# Altium footprint library ebf EP4CE10 Pro_20200309_PCB库_AD格式.PcbLib: 62 footprints (part 3 of 4)
Each footprint in its own frame and in the unit in brackets; x right, y up, seen from the top. Pads: shape width x height; smd on the part's side, far side on the other; paste and mask are expansions set on the pad; w line width, h text height; cw(c..) or ccw(c..) is an arc to the next point about the centre after c.
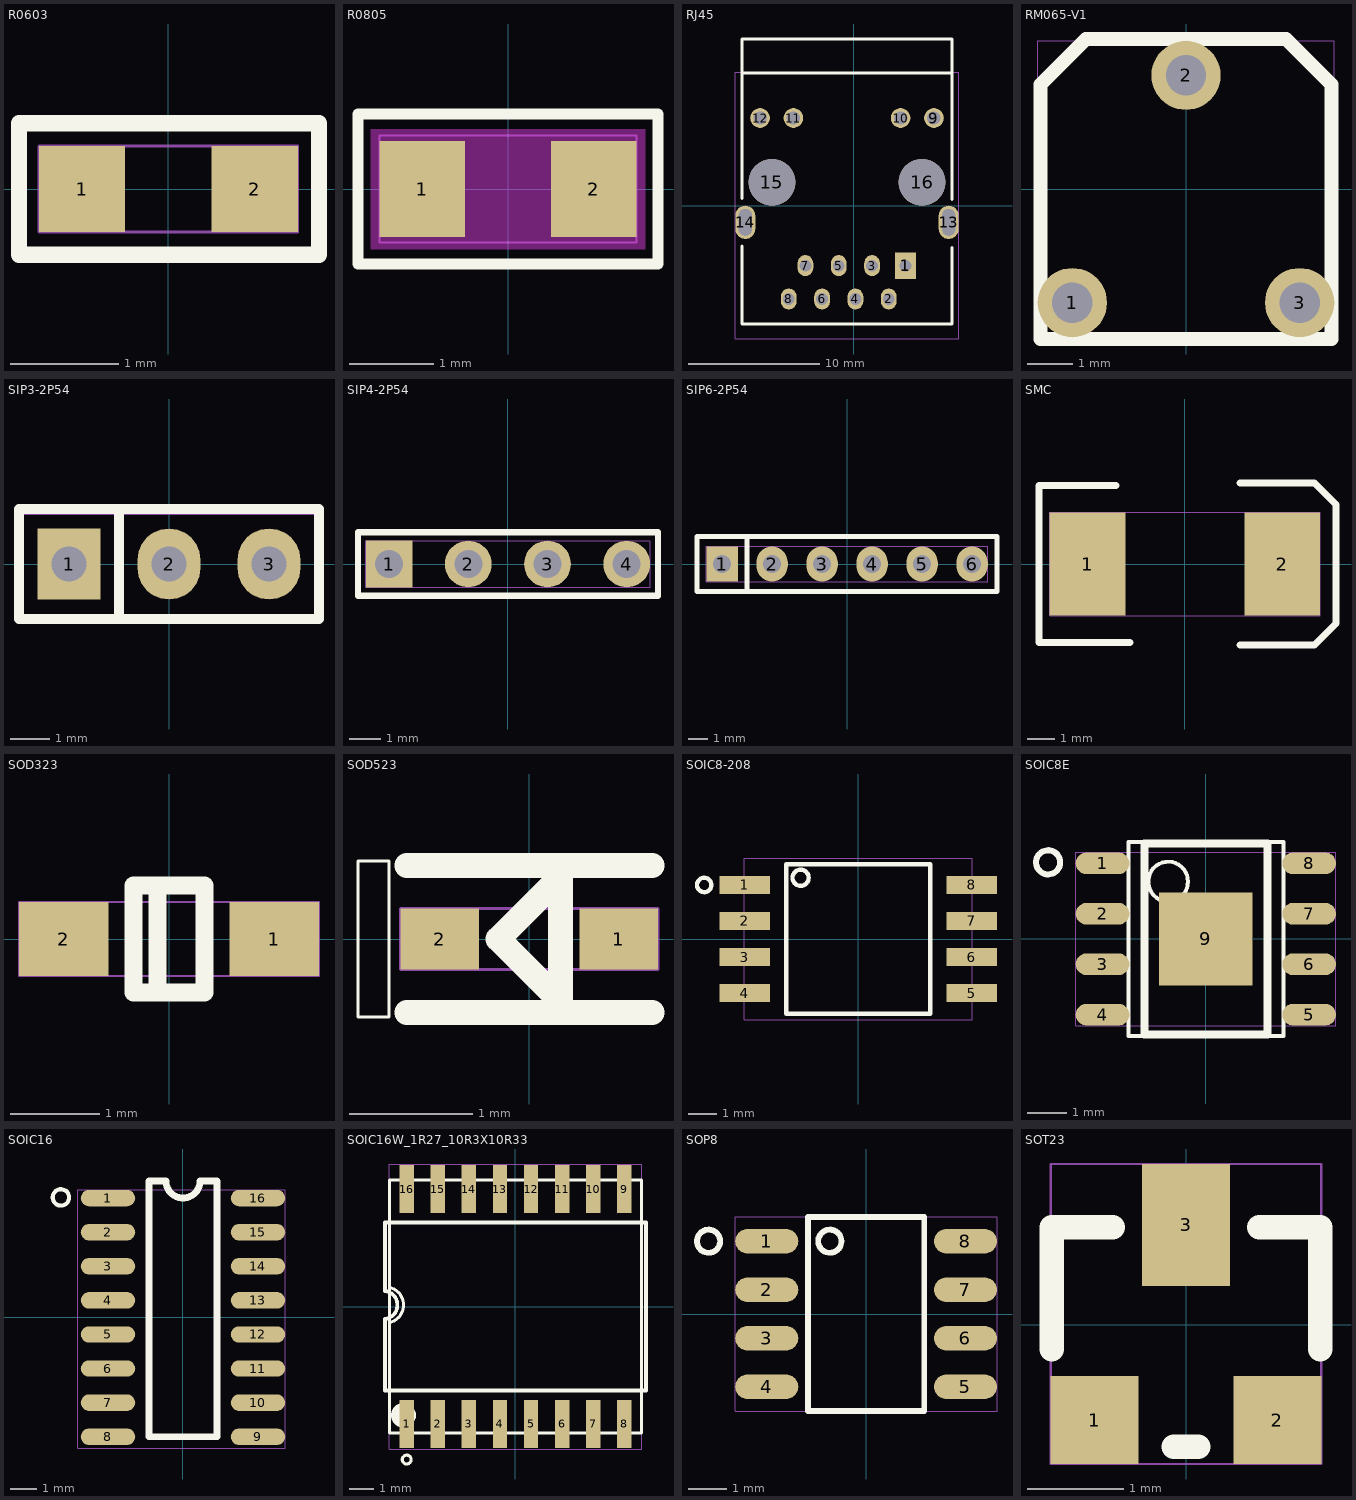
[diagram p2: the footprints below, top view; thin cyan lines are the x and y axes]

## R0603 [mil]
pads (2):
  rect 31.5x31.5 smd mask+1.95: 1(-31.5,0) 2(31.5,0)
Top Overlay:
  lines w6: -54.5,-24 -54.5,24 55,24 55,-24 -54.5,-24
Top Assembly:
  text "R99" at -59.99,-25 h50
Mechanical 20:
  lines w1: -47.2,-15.7 47.2,-15.7 47.2,15.7 -47.2,15.7 -47.2,-15.7

## R0805 [mil]
pads (2):
  rect 40x45 smd mask+4: 1(-40,0) 2(40,0)
Top Layer keep-out:
  region: -64,-28 -64,28 64,28 64,-28
Top Overlay:
  lines w5: -70,-35 -70,35 70,35 70,-35 -70,-35
Top Assembly:
  text "R167" at -78.2,-25 h50
Mechanical 20:
  lines w1: -60,-25 -60,25 60,25 60,-25 -60,-25

## RJ45 [mil]
pads (16):
  rect 63x78.7 / inner oval 63x78.7 / far side rect 63x78.7 hole 35.4 mask+2: 1(155.2,-180)
  oval 47.2x63 hole 35.4 mask+1.95: 2(105.2,-280) 3(55.2,-180) 4(5.2,-280) 5(-44.8,-180) 6(-94.8,-280) 7(-144.8,-180) 8(-194.8,-280)
  round 59.1 hole 40.2 mask+2.5: 9(240.8,262.9) 10(140.8,262.9) 11(-180.8,262.9) 12(-280.8,262.9)
  oval 60x100 hole 40 slot 80 at 90 deg mask+2.5: 13(285.1,-50.1) 14(-325.1,-50.1)
  round 140 hole 140 unplated mask+2.5: 15(-245,70) 16(205,70)
Top Overlay:
  lines w7.9: -335,397.8 295,397.8
  lines w10: -335,-120.8 -335,-355 295,-355 295,-126 ; -335,22.6 -335,499.9 295,499.9 295,18.9
Top Assembly:
  text "J12" at -53.32,-25 h50
Mechanical 20:
  lines w1: -355.1,-400 -355.1,400 315.1,400 315.1,-400 -355.1,-400

## RM065-V1 [mil]
pads (3):
  round 60 hole 35 mask+2.5: 1(-98.4,-98.4) 2(0,98.4) 3(98.4,-98.4)
Top Overlay:
  lines w12: -126,-129.9 -126,90.6 -86.6,129.9 86.6,129.9 126,90.6 126,-129.9 -126,-129.9
Top Assembly:
  text "RA1" at -53.08,-25 h50
Mechanical 20:
  lines w1: -128.4,-128.4 128.4,-128.4 128.4,128.4 -128.4,128.4 -128.4,-128.4

## SIP3-2P54 [mil]
pads (3):
  rect 63x70.9 hole 35.4 mask+1.95: 1(-100,0)
  oval 63x70.9 hole 35.4 mask+1.95: 2(0,0) 3(100,0)
Top Overlay:
  lines w10: -50,-55.1 -50,55.1 ; -150,-55.1 150,-55.1 150,55.1 -150,55.1 -150,-55.1
Top Assembly:
  text "J14" at -54.51,-25 h50
Mechanical 20:
  lines w1: -150,-50 -150,50 150,50 150,-50 -150,-50

## SIP4-2P54 [mil]
pads (4):
  rect 59.1x59.1 / inner round 59.1 / far side rect 59.1x59.1 hole 35.4 mask+1.95: 1(-150,0)
  round 59.1 hole 35.4 mask+1.95: 2(-50,0) 3(50,0) 4(150,0)
Top Overlay:
  lines w7.9: -189.4,-40 -189.4,40 189.6,40 189.6,-40 -189.4,-40
Top Assembly:
  text "J13" at -53.32,-25 h50
Mechanical 20:
  lines w1: -179.5,-29.5 179.5,-29.5 179.5,29.5 -179.5,29.5 -179.5,-29.5

## SIP6-2P54 [mil]
pads (6):
  rect 63x70.9 hole 35.4 mask+1.95: 1(-250,0)
  oval 63x70.9 hole 35.4 mask+1.95: 2(-150,0) 3(-50,0) 4(50,0) 5(150,0) 6(250,0)
Top Overlay:
  lines w10: -200,-55.1 -200,55.1 ; -300,-55.1 300,-55.1 300,55.1 -300,55.1 -300,-55.1
Top Assembly:
  text "J8" at -34.99,-25 h50
Mechanical 20:
  lines w1: -281.5,-35.4 -281.5,35.4 281.5,35.4 281.5,-35.4 -281.5,-35.4

## SMC [mil]
pads (2):
  rect 110.2x150 smd mask+1.95: 1(-141.7,0) 2(141.7,0)
Top Overlay:
  lines w10: -100,114.2 -212.6,114.2 -212.6,-114.2 -80,-114.2 ; 80,-118.1 188.5,-118.1 220,-86.6 220,86.6 188.5,118.1 80,118.1
Top Assembly:
  text "D3" at -38.92,-25 h50
Mechanical 20:
  lines w1: -196.8,-75 196.8,-75 196.8,75 -196.8,75 -196.8,-75

## SOD323 [mil]
pads (2):
  rect 39.4x32.7 smd mask+1.95: 1(46.5,0) 2(-46.5,0)
Top Overlay:
  lines w7.9: -5.1,-23.6 -5.1,23.6 ; -15.7,-23.6 15.7,-23.6 15.7,23.6 -15.7,23.6 -15.7,-23.6
Top Assembly:
  text "Z5" at -38.92,-25 h50
Mechanical 20:
  lines w1: -66.1,-16.3 66.1,-16.3 66.1,16.3 -66.1,16.3 -66.1,-16.3

## SOD523 [mil]
pads (2):
  rect 25.2x19.7 smd mask+1.95: 1(28.7,0) 2(-28.7,0)
Top Overlay:
  lines w1: -55,-25 -45,-25 -45,25 -55,25 -55,-25
  lines w7.9: -39.4,-23.6 39.4,-23.6 ; -39.4,23.6 39.4,23.6
  lines w8: -10,0 10,-20 10,20 -10,0
Top Assembly:
  text "TVS5" at -80.82,-25 h50
Mechanical 20:
  lines w1: -41.3,-9.8 41.3,-9.8 41.3,9.8 -41.3,9.8 -41.3,-9.8

## SOIC8-208 [mil]
pads (8):
  rect 70x25 smd mask+2: 1(-157.5,75) 2(-157.5,25) 3(-157.5,-25) 4(-157.5,-75) 5(157.5,-75) 6(157.5,-25) 7(157.5,25) 8(157.5,75)
Top Overlay:
  circle w6: c-80,85 r11.18
  circle w6: c-213.78,75 r9.98
  lines w6: -100,-103.9 -100,103.9 ; -100,-103.9 100,-103.9 ; -100,-103.9 -100,103.9 ; -100,-103.9 100,-103.9 ; -100,103.9 100,103.9 ; -100,103.9 100,103.9 ; 100,-103.9 100,103.9 ; 100,-103.9 100,103.9
Top Assembly:
  text "U12" at -58.56,-25 h50
Mechanical 20:
  lines w1: -158.2,-112 158.2,-112 158.2,112 -158.2,112 -158.2,-112

## SOIC8E [mil]
pads (9):
  oval 53.2x21.6 smd mask+1.95: 1(-102.4,75) 2(-102.4,25) 3(-102.4,-25) 4(-102.4,-75) 5(102.4,-75) 6(102.4,-25) 7(102.4,25) 8(102.4,75)
  rect 92.5x92.5 smd mask+2: 9(0,0)
Top Overlay:
  circle w6: c-156.38,75.99 r11.98
  circle w3.9: c-37.4,56.89 r19.7
  lines w3.9: -76.8,-96.3 -76.8,96.3 76.8,96.3 76.8,-96.3 -76.8,-96.3
  lines w7.9: -61,-94.5 -61,94.5 61,94.5 61,-94.5 -61,-94.5
Top Assembly:
  text "U1" at -29.52,-25 h50
Mechanical 20:
  lines w1: -128.9,-85.8 128.9,-85.8 128.9,85.8 -128.9,85.8 -128.9,-85.8

## SOIC16 [mil]
pads (16):
  oval 80x24 smd mask+2.5: 1(-110,175) 2(-110,125) 3(-110,75) 4(-110,25) 5(-110,-25) 6(-110,-75) 7(-110,-125) 8(-110,-175) 9(110,-175) 10(110,-125) 11(110,-75) 12(110,-25) 13(110,25) 14(110,75) 15(110,125) 16(110,175)
Top Overlay:
  circle w6: c-179.02,175.99 r12.02
  lines w10: -50,-175 50,-175 50,200 25,200 cw(c0,200) -25,200 -50,200 -50,-175
Top Assembly:
  text "U9" at -39.04,-25 h50
Mechanical 20:
  lines w1: -154,-192 150,-192 150,187 -154,187 -154,-192

## SOIC16W_1R27_10R3X10R33 [mil]
pads (16):
  rect 23x77 smd mask+3: 1(-175,-188.8) 2(-125,-188.8) 3(-75,-188.8) 4(-25,-188.8) 5(25,-188.8) 6(75,-188.8) 7(125,-188.8) 8(175,-188.8) 9(175,188.8) 10(125,188.8) 11(75,188.8) 12(25,188.8) 13(-25,188.8) 14(-75,188.8) 15(-125,188.8) 16(-175,188.8)
Top Overlay:
  circle w5: c-174.92,-246.08 r7.12
  circle w20: c-180,-175 r10
  lines w5: -200.03,-25.01 ccw(c-208.75,2.5) -199.98,29.99 ; -202.8,-203.3 202.8,-203.3 202.8,203.3 -202.8,203.3 -202.8,-203.3
  lines w6: -210,-135 -210,-20 ccw(c-212.5,2.5) -210.02,25 -210,135 210,135 210,-135 -210,-135
Top Assembly:
  text "U19" at -57.37,-25 h50
Mechanical 20:
  lines w1: -202.7,-229.3 -202.7,229.2 202.8,229.2 202.8,-229.3 -202.7,-229.3

## SOP8 [mil]
pads (8):
  oval 65x25 smd mask+1.95: 1(-102.4,75) 2(-102.4,25) 3(-102.4,-25) 4(-102.4,-75) 5(102.4,-75) 6(102.4,-25) 7(102.4,25) 8(102.4,75)
Top Overlay:
  circle w6: c-162.36,75 r11.96
  circle w6: c-37.36,75 r11.96
  lines w6: -60,-100 60,-100 60,100 -60,100 -60,-100
Top Assembly:
  text "U23" at -62.49,-25 h50
Mechanical 20:
  lines w1: -134.9,-100 -134.9,100 134.9,100 134.9,-100 -134.9,-100

## SOT23 [mil]
pads (3):
  rect 36x36 smd mask+1.95: 1(-37.5,-39) 2(37.5,-39)
  rect 36x50 smd mask+1.95: 3(0,41)
Top Overlay:
  lines w10: -55,-10 -55,40 -30,40 ; -5,-50 5,-50 ; 30,40 55,40 55,-10
Top Assembly:
  text "Q8" at -41.54,-27.38 h50
Mechanical 20:
  lines w1: -55.5,-57 55.5,-57 55.5,66 -55.5,66 -55.5,-57